# EAGLE library part STEVAL-MKI108V2 (library P442)
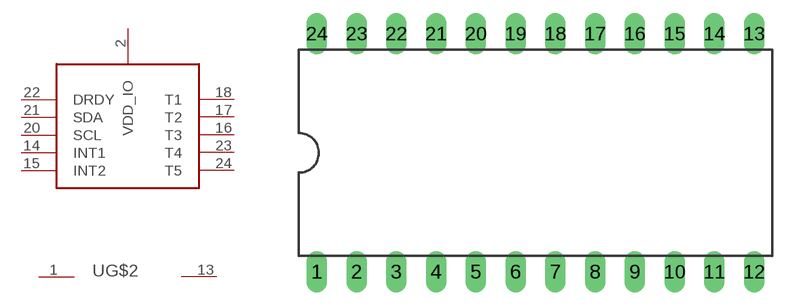
[diagram p6: symbol with the pads of DIL24-6; footprint DIL24-6]

Designator prefix -; gates G$1=STEVAL-MKI108 G$2=PWR_GND

## STEVAL-MKI108V2  [DIL24-6]
1  G$2:VCC  pwr
2  G$1:VDD_IO  pwr
13  G$2:GND  pwr
14  G$1:INT1
15  G$1:INT2
16  G$1:T3
17  G$1:T2
18  G$1:T1
20  G$1:SCL
21  G$1:SDA
22  G$1:DRDY
23  G$1:T4
24  G$1:T5

## Footprint DIL24-6 (pad centres in mm)
drill 0.813 long: 1 -13.97,-7.62; 2 -11.43,-7.62; 3 -8.89,-7.62; 4 -6.35,-7.62; 5 -3.81,-7.62; 6 -1.27,-7.62; 7 1.27,-7.62; 8 3.81,-7.62; 9 6.35,-7.62; 10 8.89,-7.62; 11 11.43,-7.62; 12 13.97,-7.62; 13 13.97,7.62; 14 11.43,7.62; 15 8.89,7.62; 16 6.35,7.62; 17 3.81,7.62; 18 1.27,7.62; 19 -1.27,7.62; 20 -3.81,7.62; 21 -6.35,7.62; 22 -8.89,7.62; 23 -11.43,7.62; 24 -13.97,7.62